# EAGLE library part MCP2557FD (library serial_interfaces)
1/1 Transceiver CANbus 8-SOIC
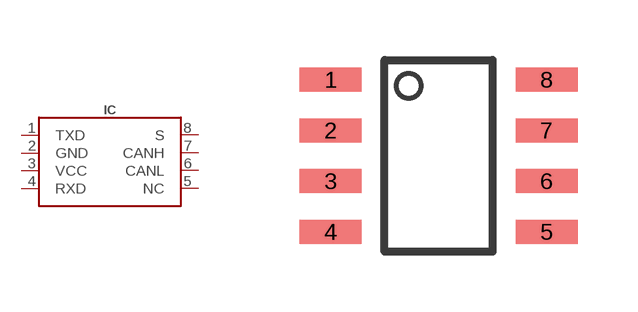
[diagram p22: symbol with the pads of SOIC8; footprint SOIC8]

Designator prefix IC

## MCP2557FD (DIGIKEY#: MCP2557FD-H/SN-ND; MANF: Microchip Technology; MANF#: MCP2557FD-H/SN)  [SOIC8]
1  TXD
2  GND
3  VCC
4  RXD
5  NC
6  CANL
7  CANH
8  S

## Footprint SOIC8 (pad centres in mm)
https://www.ti.com/lit/ds/snvsaq5a/snvsaq5a.pdf?ts=1602424164509
smd 1.55 x 0.6: 1 -2.7,1.905; 2 -2.7,0.635; 3 -2.7,-0.635; 4 -2.7,-1.905; 5 2.7,-1.905; 6 2.7,-0.635; 7 2.7,0.635; 8 2.7,1.905